# Altium schematic symbol library Schlib1.SchLib: 7 symbols
Pins are listed as number, name and electrical type; pins without a type are passive.

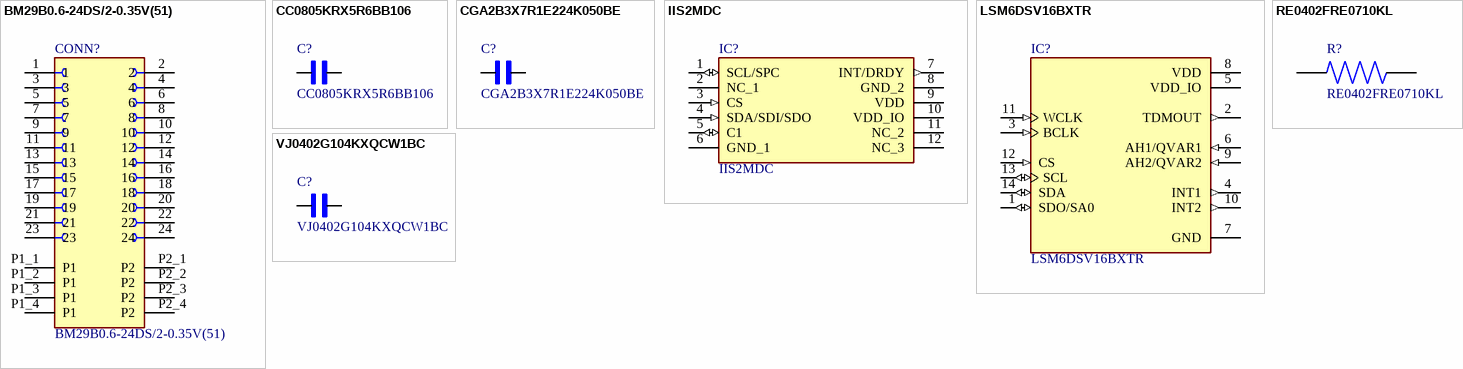
[diagram p0: symbols BM29B0.6-24DS/2-0.35V(51) to VJ0402G104KXQCW1BC]

## BM29B0.6-24DS/2-0.35V(51)
designator CONN?
26 (24 + 2 Power) Position Connector Receptacle, Center Strip Contacts Surface Mount Gold; MF: Hirose Connector; SnapEDA_Link: https://www.snapeda.com/parts/BM29B0.6-24DS/2-0.35V(51)/Hirose/view-part/?ref=snap; Package: None; Value: *; MP: BM29B0.6-24DS/2-0.35V(51); Check_prices: https://www.snapeda.com/parts/BM29B0.6-24DS/2-0.35V(51)/Hirose/view-part/?ref=eda; Supplier 1: DigiKey; Supplier Part Number 1: 26-BM29B0.6-24DS/2-0.35V(51)TR-ND
footprint HRS_BM29B0.6-24DS/2-0.35V(51)
pins: 1, 2, 3, 4, 5, 6, 7, 8, 9, 10, 11, 12, 13, 14, 15, 16, 17, 18, 19, 20, 21, 22, 23, 24, P1_1 P1 (power), P1_2 P1 (power), P1_3 P1 (power), P1_4 P1 (power), P2_1 P2 (power), P2_2 P2 (power), P2_3 P2 (power), P2_4 P2 (power)

## CC0805KRX5R6BB106
designator C?
Supplier 1: RS; Supplier Part Number 1: 1988126P
footprint C10uF - CC0805KRX5R6BB106 (Chip Capacitor, 2-Leads, Body 2,00x1,25mm, IPC Medium Density)
pins: 1, 2

## CGA2B3X7R1E224K050BE
designator C?
Cap Ceramic 0.22uF 25V X7R 10% Pad SMD 0402 Soft Termination 125C Automotive T/R; MF: TDK; SnapEDA_Link: https://www.snapeda.com/parts/CGA2B3X7R1E224K050BE/TDK/view-part/?ref=snap; Package: 1005 TDK; Value: *; MP: CGA2B3X7R1E224K050BE; Check_prices: https://www.snapeda.com/parts/CGA2B3X7R1E224K050BE/TDK/view-part/?ref=eda; Supplier 1: Farnell; Supplier Part Number 1: CGA2B3X7R1E224K050BE
footprint C220nF - CGA2B3X7R1E224K050BE
pins: 1, 2

## IIS2MDC
designator IC?
Supplier 1: RS; Supplier Part Number 1: 1935447
footprint Magnetometer
pins: 1 SCL/SPC (io), 2 NC_1 (hiz), 3 CS (in), 4 SDA/SDI/SDO (in), 5 C1 (io), 6 GND_1 (power), 7 INT/DRDY (out), 8 GND_2 (power), 9 VDD (power), 10 VDD_IO (power), 11 NC_2 (hiz), 12 NC_3 (hiz)

## LSM6DSV16BXTR
designator IC?
Accelerometer, Gyroscope, Temperature, 6 Axis Sensor IÂ²C, I3Câ„ , SPI Output; MF: STMicroelectronics; SnapEDA_Link: https://www.snapeda.com/parts/LSM6DSV16BXTR/STMicroelectronics/view-part/?ref=snap; Package: LGA-14 STMicroelectronics; Value: *; MP: LSM6DSV16BXTR; Check_prices: https://www.snapeda.com/parts/LSM6DSV16BXTR/STMicroelectronics/view-part/?ref=eda; Supplier 1: RS; Supplier Part Number 1: 2615021
footprint PQFN50P250X300X74-14N
pins: 1 SDO/SA0 (io), 2 TDMOUT (out), 3 BCLK (in), 4 INT1 (out), 5 VDD_IO (power), 6 AH1/QVAR1 (in), 7 GND (power), 8 VDD (power), 9 AH2/QVAR2 (in), 10 INT2 (out), 11 WCLK (in), 12 CS (in), 13 SCL (io), 14 SDA (io)

## RE0402FRE0710KL
designator R?
10 kOhms Â±1% 0.063W, 1/16W Chip Resistor 0402 (1005 Metric) Moisture Resistant Thick Film; MF: Yageo; SnapEDA_Link: https://www.snapeda.com/parts/RE0402FRE0710KL/Yageo/view-part/?ref=snap; Package: 1005 Yageo; Value: *; MP: RE0402FRE0710KL; Check_prices: https://www.snapeda.com/parts/RE0402FRE0710KL/Yageo/view-part/?ref=eda; Supplier 1: Farnell; Supplier Part Number 1: RE0402FRE0710KL
footprint 10k - RE0402FRE0710KL
pins: 1, 2

## VJ0402G104KXQCW1BC
designator C?
Supplier 1: Future Electronics; Supplier Part Number 1: VJ0402G104KXQCW1BC
footprint C100nF - VJ0402G104KXQCW1BC (Chip Capacitor, 2-Leads, Body 1,00x0,50mm, IPC Medium Density)
pins: 1, 2